# Altium schematic symbol library MPU9250 Module.SchLib: 1 symbol
Pins are listed as number, name and electrical type; pins without a type are passive.

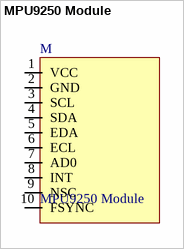
[diagram p0: symbol MPU9250 Module]

## MPU9250 Module
designator M
footprint MPU9250 Module
pins: 1 VCC, 2 GND, 3 SCL, 4 SDA, 5 EDA, 6 ECL, 7 AD0, 8 INT, 9 NSC, 10 FSYNC